# Altium schematic symbol library Schlib1.SchLib: 11 symbols
Pins are listed as number, name and electrical type; pins without a type are passive.

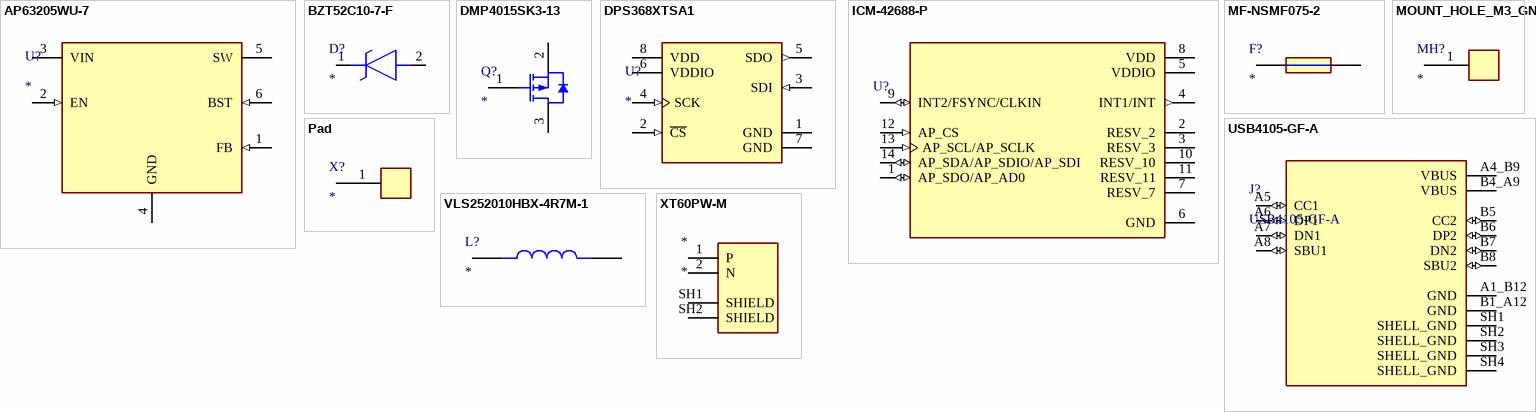
[diagram p0: symbols AP63205WU-7 to XT60PW-M]

## AP63205WU-7
designator U?
footprint SOT95P280X145-6N (DC/DC Buck Converter, 3A, 3.8-32V IN, TSOT-26-6)
pins: 1 FB (in), 2 EN (in), 3 VIN (power), 4 GND (power), 5 SW (power), 6 BST (in)

## BZT52C10-7-F
designator D?
footprint SOD3716X145N (Zener diode)
pins: 1 K, 2 A

## DMP4015SK3-13
designator Q?
footprint DMP4015SK3-13
pins: 1 GATE, 2 SOURCE, 3 DRAIN

## DPS368XTSA1
designator U?
footprint LGA200P250X200X110-8N (Digital Barometric Pressure Sensor, I2C/SPI, PG-VLGA-8-2)
pins: 1 GND (power), 2 ~{CS} (in), 3 SDI (in), 4 SCK (in), 5 SDO (out), 6 VDDIO (power), 7 GND (power), 8 VDD (power)

## ICM-42688-P
designator U?  (value not drawn)
footprint PQFN50P300X250X97-14N (IMU)
pins: 1 AP_SDO/AP_AD0 (io), 2 RESV_2, 3 RESV_3, 4 INT1/INT (out), 5 VDDIO (power), 6 GND (power), 7 RESV_7, 8 VDD (power), 9 INT2/FSYNC/CLKIN (io), 10 RESV_10, 11 RESV_11, 12 AP_CS (in), 13 AP_SCL/AP_SCLK (in), 14 AP_SDA/AP_SDIO/AP_SDI (io)

## MF-NSMF075-2
designator F?
footprint FUSC3216X70N (Polyfuse)
pins: 1, 2

## MOUNT_HOLE_M3_GND
designator MH?
footprint MOUNTING_HOLE_M3 (Non-Plated Through Mounting Hole (NPTH) for M3 mechanical fasteners.)
pins: 1

## Pad
designator X?
footprint Solder_Wire_Pad (1.5 mm × 1.5 mm multipurpose PCB solder pad for user-accessible connections. Intended for power, ground, signal routing, sensor expansion, debugging, and direct wire attachment in open-source hardware designs.)
pins: 1

## USB4105-GF-A
designator J?
footprint CONN_USB_C_16P_TOP_SMT_TH (USB Type-C Receptacle, Top Mount, SMT+TH, 16 Contacts)
pins: A1_B12 GND (power), A4_B9 VBUS (power), A5 CC1 (io), A6 DP1 (io), A7 DN1 (io), A8 SBU1 (io), B1_A12 GND (power), B4_A9 VBUS (power), B5 CC2 (io), B6 DP2 (io), B7 DN2 (io), B8 SBU2 (io), SH1 SHELL_GND (power), SH2 SHELL_GND (power), SH3 SHELL_GND (power), SH4 SHELL_GND (power)

## VLS252010HBX-4R7M-1
designator L?
4.7uH ±20% Shielded Power Inductor, 1.09A, 2520 (1008 Metric)
footprint INDC2520X100N (4.7uH ±20% Shielded Power Inductor, 1.09A, 2520 (1008 Metric))
pins: 1, 2

## XT60PW-M
designator *
footprint CONN_XT60PW-M_2P_RA_THT (Connector, Power, 2 Position, Right Angle, Through Hole, 7.2 mm Pitch)
pins: 1 P, 2 N, SH1 SHIELD, SH2 SHIELD